# EAGLE library part SN74CBTLV3245A (library 8bus-switch-sn74cbtl)
Texas Instruments: SN74CBTLV3245A LOW-VOLTAGE OCTAL FET BUS SWITCH The SN74CBTLV3245A provides eight bits of high-speed bus switching in a standard '245 device pinout. The low on-state resistance of the switch allows connections to be made with minimal propagation delay. The device is organized as one 8-bit switch. When output enable (OE) is low, the 8-bit bus switch is on, and port A is connected to port B. When OE is high, the switch is open, and the high-impedance state exists between the two ports. This device is fully specified for partial-power-down applications using I off . The I off feature ensures that damaging current will not backflow through the device when it is powered down. The device has isolation during power off. To ensure the high-impedance state during power up or power down, OE should be tied to VCC through a pullup resistor; the minimum value of the resistor is determined by the current-sinking capability of the driver.
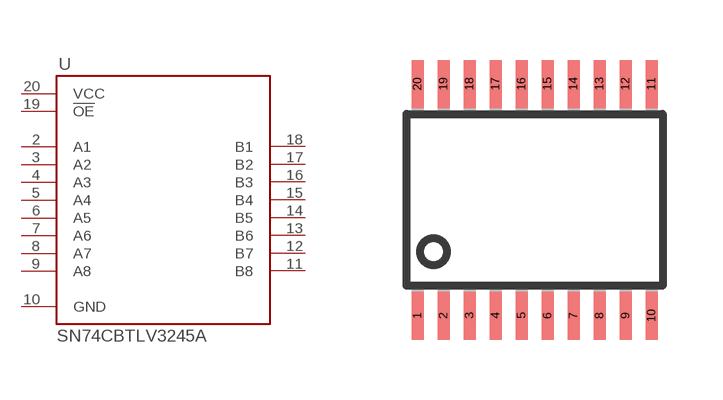
[diagram p0: symbol with the pads of PW_R-PDSO-G20; footprint PW_R-PDSO-G20]

Designator prefix U

## SN74CBTLV3245A  [PW_R-PDSO-G20]
2  A1
3  A2
4  A3
5  A4
6  A5
7  A6
8  A7
9  A8
10  GND
11  B8
12  B7
13  B6
14  B5
15  B4
16  B3
17  B2
18  B1
19  !OE
20  VCC

## Footprint PW_R-PDSO-G20 (pad centres in mm)
PLASTIC SMALL-OUTLINE PACKAGE SO 20 JEDEC MO-153, PW Type Source: www.ti.com/.. slvs087l.pdf
smd 0.3 x 1.2: 1 -2.925,-2.9; 2 -2.275,-2.9; 3 -1.625,-2.9; 4 -0.975,-2.9; 5 -0.325,-2.9; 6 0.325,-2.9; 7 0.975,-2.9; 8 1.625,-2.9; 9 2.275,-2.9; 10 2.925,-2.9; 11 2.925,2.9; 12 2.275,2.9; 13 1.625,2.9; 14 0.975,2.9; 15 0.325,2.9; 16 -0.325,2.9; 17 -0.975,2.9; 18 -1.625,2.9; 19 -2.275,2.9; 20 -2.925,2.9